# Altium schematic symbol library LED_VIOLET.SCHLIB: 1 symbol
Pins are listed as number, name and electrical type; pins without a type are passive.

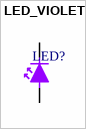
[diagram p0: symbol LED_VIOLET]

## LED_VIOLET
designator LED?
pins: 1 A, 2 C